# Altium schematic symbol library solder-jumper-connected.Schlib: 1 symbol
Pins are listed as number, name and electrical type; pins without a type are passive.

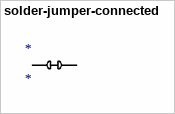
[diagram p0: symbol solder-jumper-connected]

## solder-jumper-connected
designator *  (no BOM)
footprint solder-jumper-connected
pins: 1, 2